# Altium footprint library VFQFPN-20.PcbLib: 1 footprints
Each footprint in its own frame and in the unit in brackets; x right, y up, seen from the top. Pads: shape width x height; smd on the part's side, far side on the other; paste and mask are expansions set on the pad; w line width, h text height; cw(c..) or ccw(c..) is an arc to the next point about the centre after c.
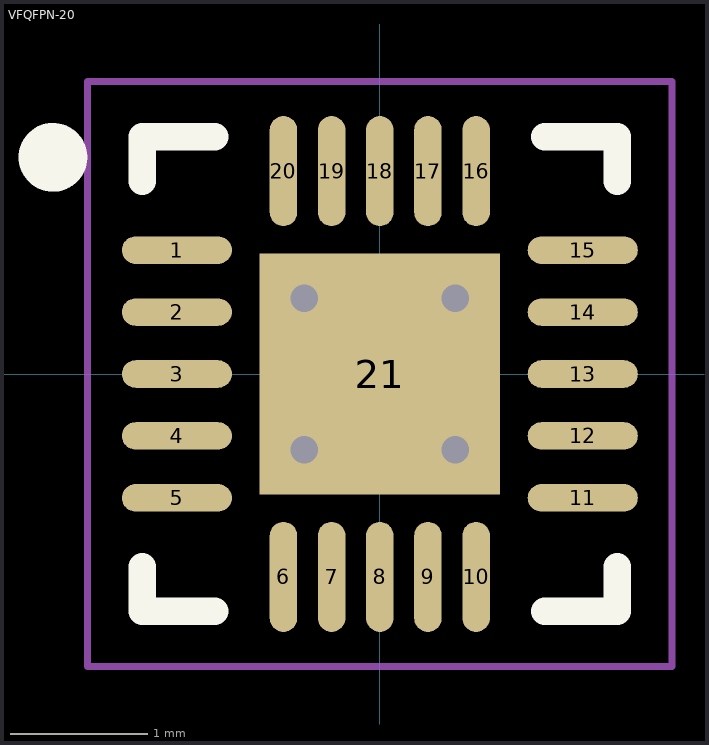
[diagram p0: the footprint, top view; thin cyan lines are the x and y axes]

## VFQFPN-20 [mm] "QFN, 20-Leads, Body 3,00x3,00mm, Pitch 0,35mm/0,45mm, Thermal Pad 1,75x1,75mm, IPC Medium Density"
height 0.8
pads (21):
  oval 0.8x0.2 smd: 1(-1.475,0.9) 2(-1.475,0.45) 3(-1.475,0) 4(-1.475,-0.45) 5(-1.475,-0.9) 11(1.475,-0.9) 12(1.475,-0.45) 13(1.475,0) 14(1.475,0.45) 15(1.475,0.9)
  oval 0.2x0.8 smd: 6(-0.7,-1.475) 7(-0.35,-1.475) 8(0,-1.475) 9(0.35,-1.475) 10(0.7,-1.475) 16(0.7,1.475) 17(0.35,1.475) 18(0,1.475) 19(-0.35,1.475) 20(-0.7,1.475)
  rect 1.75x1.75 smd: 21(0,0)
via 0.55,-0.55 diameter 0.5 hole 0.2
via -0.55,-0.55 diameter 0.5 hole 0.2
via 0.55,0.55 diameter 0.5 hole 0.2
via -0.55,0.55 diameter 0.5 hole 0.2
Top Overlay:
  circle w0.25: c-2.375,1.575 r0.125
  lines w0.2: -1.725,-1.4 -1.725,-1.725 -1.2,-1.725 ; -1.725,1.4 -1.725,1.725 -1.2,1.725 ; 1.2,-1.725 1.725,-1.725 1.725,-1.4 ; 1.2,1.725 1.725,1.725 1.725,1.4
Mechanical 15:
  lines w0.05: -2.125,-2.125 2.125,-2.125 2.125,2.125 -2.125,2.125 -2.125,-2.125
  lines w0.1: -0.5,0 0.5,0 ; 0,-0.5 0,0.5
3D body "VFQFN-20.step": height 0.8, standoff 0, extent -1.595,-1.595 1.595,1.595